# EAGLE library part DUALCONCENTRIC (library clonepots)
Dual Concentric Pot Alps Clone.
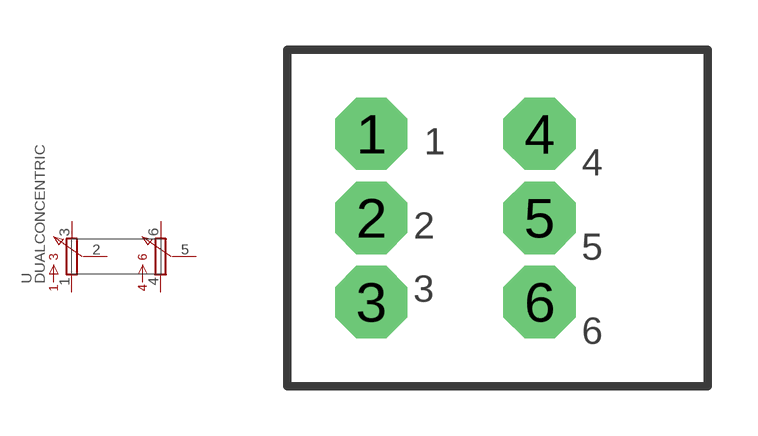
[diagram p0: symbol with the pads of DUALCONCENTRIC; footprint DUALCONCENTRIC]

Designator prefix -

## DUALCONCENTRIC  [DUALCONCENTRIC]
1  1  pas
2  2  pas
3  3  pas
4  5  pas
5  7  pas
6  6  pas

## Footprint DUALCONCENTRIC (pad centres in mm)
Clone of Alps dual concentric PC mount pot
drill 1.27 pad 2.184 octagon: 1 -8.89,2.54; 2 -8.89,0; 3 -8.89,-2.54; 4 -3.81,2.54; 5 -3.81,0; 6 -3.81,-2.54